# EAGLE library part LMZ23610 (library texas)
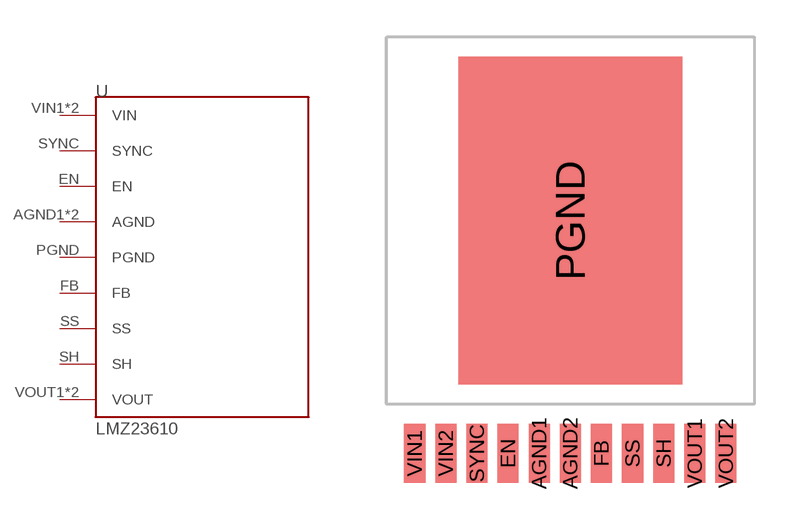
[diagram p128: symbol with the pads of LMZ23610; footprint LMZ23610]

Designator prefix -

## LMZ23610  [LMZ23610]
AGND1  AGND
AGND2  AGND
EN  EN
FB  FB
PGND  PGND
SH  SH
SS  SS
SYNC  SYNC
VIN1  VIN
VIN2  VIN
VOUT1  VOUT
VOUT2  VOUT

## Footprint LMZ23610 (pad centres in mm)
smd 0.86 x 2.41: AGND1 -1.27,-9.5; AGND2 0,-9.5; EN -2.54,-9.5; FB 1.27,-9.5; SH 3.81,-9.5; SS 2.54,-9.5; SYNC -3.81,-9.5; VIN1 -6.35,-9.5; VIN2 -5.08,-9.5; VOUT1 5.08,-9.5; VOUT2 6.35,-9.5
smd 9.126 x 13.36: PGND 0,0